# Altium integrated library Analog Devices Switches and Multiplexers Digital Crosspoint Switches.IntLib: 20 symbols (part 1 of 4)
Pins are listed as number, name and electrical type; pins without a type are passive.

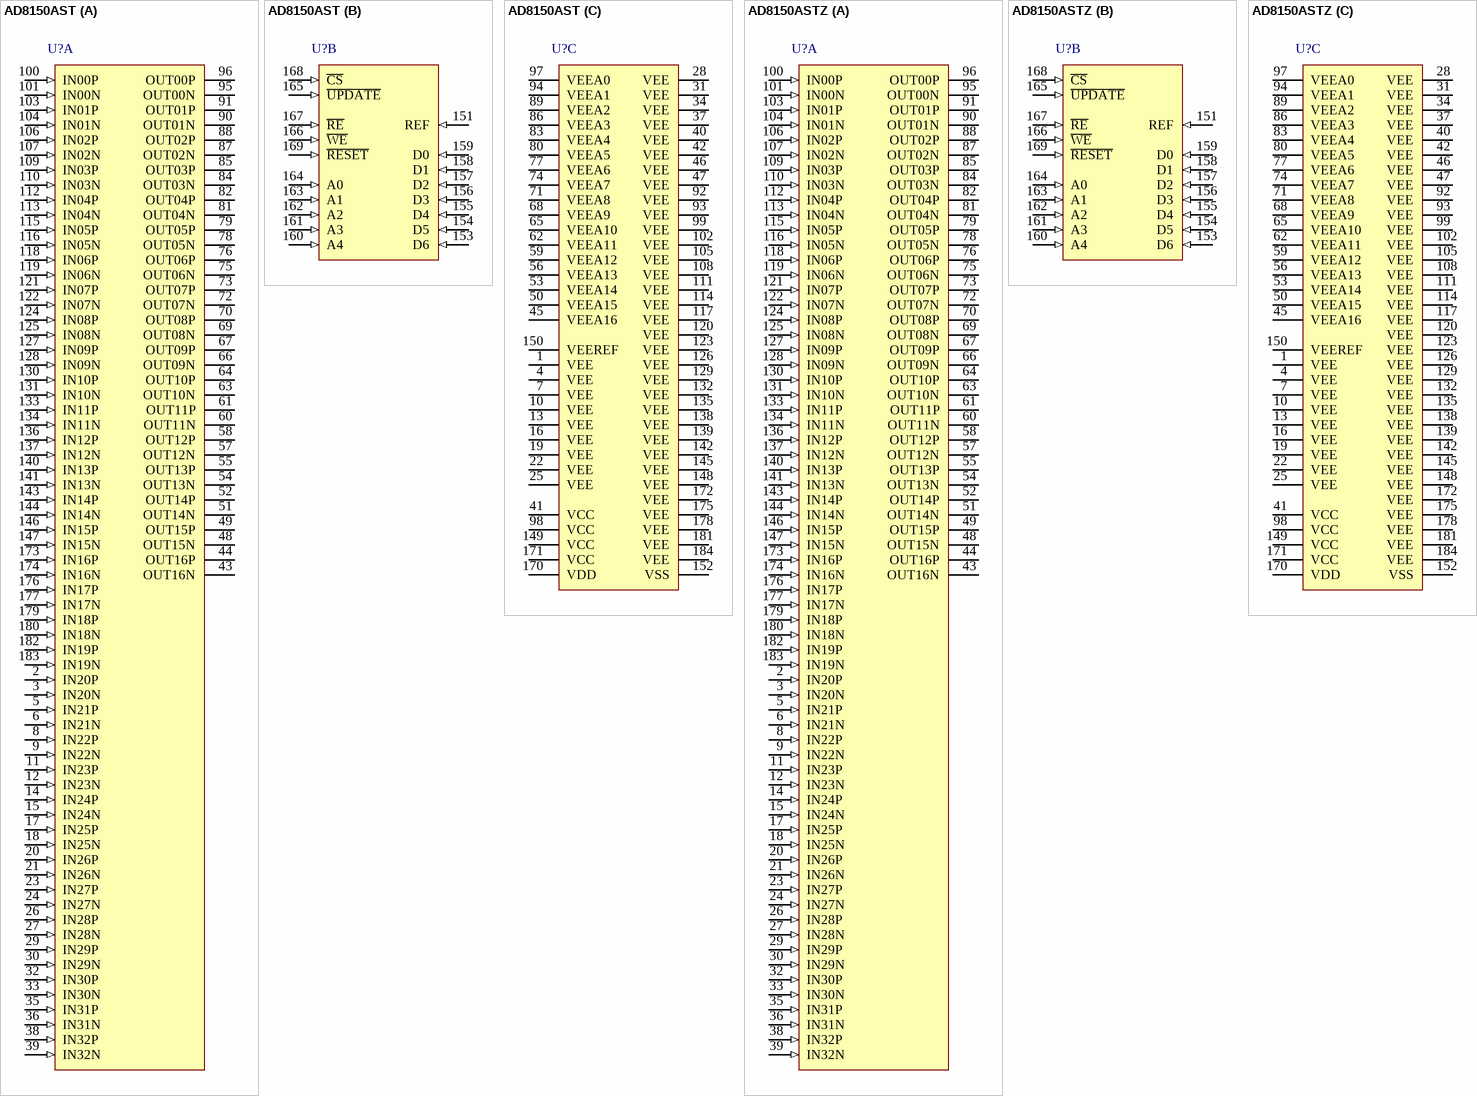
[diagram p0: symbols AD8150AST to AD8150ASTZ]

## AD8150AST
designator U?
Xstream(TM) 33 x 17, 1.5 Gbps Digital Crosspoint Switch, 650 ps Prop Delay, 0 to 85 degC, 184-pin QFP (ST-184), Tray; Manufacturer: Analog Devices; PartNumber: AD8150AST; Control Interface: CMOS/TTL Parallel; Data Rate (Gbps): 1.5; Input Swing (mV p-p): 200-1000; Prop Delay: 650ps; Output Rise/Fall (ps): 100; Supply Current: 400mA; Voltage Supply Level: ECL or PECL; DatasheetVersion: Rev. A; PackageVersion: Jun-03; PackageReference: ST-184; PackageDescription: 184-Pin Low Profile Quad Flat Package, Body 20 x 20 mm, Pitch 0.4 mm; Packing: Tray; Mounting Technology: Surface Mount; ComponentLink1Description: Manufacturer URL; ComponentLink1URL: http://www.analog.com/en/index.html; ComponentLink2Description: Datasheet; ComponentLink2URL: http://www.analog.com/static/imported-files/data_sheets/AD8150.pdf; ComponentLink3Description: Package Specification; ComponentLink3URL: http://www.analog.com/static/imported-files/packages/383064742445236181254945ST184_22x22.pdf
footprint ADI-ST-184_N (QFP, 184-Leads, Body 20x20mm, Pitch 0.4mm, IPC Medium Density)
footprint ADI-ST-184_L (QFP, 184-Leads, Body 20x20mm, Pitch 0.4mm, IPC High Density)
footprint ADI-ST-184_M (QFP, 184-Leads, Body 20x20mm, Pitch 0.4mm, IPC Low Density)
part A pins: 2 IN20P (in) "High Speed Input", 3 IN20N (in) "High Speed Input Complement", 5 IN21P (in) "High Speed Input", 6 IN21N (in) "High Speed Input Complement", 8 IN22P (in) "High Speed Input", 9 IN22N (in) "High Speed Input Complement", 11 IN23P (in) "High Speed Input", 12 IN23N (in) "High Speed Input Complement", 14 IN24P (in) "High Speed Input", 15 IN24N (in) "High Speed Input Complement", 17 IN25P (in) "High Speed Input", 18 IN25N (in) "High Speed Input Complement", 20 IN26P (in) "High Speed Input", 21 IN26N (in) "High Speed Input Complement", 23 IN27P (in) "High Speed Input", 24 IN27N (in) "High Speed Input Complement", 26 IN28P (in) "High Speed Input", 27 IN28N (in) "High Speed Input Complement", 29 IN29P (in) "High Speed Input", 30 IN29N (in) "High Speed Input Complement", 32 IN30P (in) "High Speed Input", 33 IN30N (in) "High Speed Input Complement", 35 IN31P (in) "High Speed Input", 36 IN31N (in) "High Speed Input Complement", 38 IN32P (in) "High Speed Input", 39 IN32N (in) "High Speed Input Complement", 43 OUT16N (hiz) "High Speed Output Complement", 44 OUT16P (hiz) "High Speed Output", 48 OUT15N (hiz) "High Speed Output Complement", 49 OUT15P (hiz) "High Speed Output", 51 OUT14N (hiz) "High Speed Output Complement", 52 OUT14P (hiz) "High Speed Output", 54 OUT13N (hiz) "High Speed Output Complement", 55 OUT13P (hiz) "High Speed Output", 57 OUT12N (hiz) "High Speed Output Complement", 58 OUT12P (hiz) "High Speed Output", 60 OUT11N (hiz) "High Speed Output Complement", 61 OUT11P (hiz) "High Speed Output", 63 OUT10N (hiz) "High Speed Output Complement", 64 OUT10P (hiz) "High Speed Output", 66 OUT09N (hiz) "High Speed Output Complement", 67 OUT09P (hiz) "High Speed Output", 69 OUT08N (hiz) "High Speed Output Complement", 70 OUT08P (hiz) "High Speed Output", 72 OUT07N (hiz) "High Speed Output Complement", 73 OUT07P (hiz) "High Speed Output", 75 OUT06N (hiz) "High Speed Output Complement", 76 OUT06P (hiz) "High Speed Output", 78 OUT05N (hiz) "High Speed Output Complement", 79 OUT05P (hiz) "High Speed Output", 81 OUT04N (hiz) "High Speed Output Complement", 82 OUT04P (hiz) "High Speed Output", 84 OUT03N (hiz) "High Speed Output Complement", 85 OUT03P (hiz) "High Speed Output", 87 OUT02N (hiz) "High Speed Output Complement", 88 OUT02P (hiz) "High Speed Output", 90 OUT01N (hiz) "High Speed Output Complement", 91 OUT01P (hiz) "High Speed Output", 95 OUT00N (hiz) "High Speed Output Complement", 96 OUT00P (hiz) "High Speed Output", 100 IN00P (in) "High Speed Input", 101 IN00N (in) "High Speed Input Complement", 103 IN01P (in) "High Speed Input", 104 IN01N (in) "High Speed Input Complement", 106 IN02P (in) "High Speed Input", 107 IN02N (in) "High Speed Input Complement", 109 IN03P (in) "High Speed Input", 110 IN03N (in) "High Speed Input Complement", 112 IN04P (in) "High Speed Input", 113 IN04N (in) "High Speed Input Complement", 115 IN05P (in) "High Speed Input", 116 IN05N (in) "High Speed Input Complement", 118 IN06P (in) "High Speed Input", 119 IN06N (in) "High Speed Input Complement", 121 IN07P (in) "High Speed Input", 122 IN07N (in) "High Speed Input Complement", 124 IN08P (in) "High Speed Input", 125 IN08N (in) "High Speed Input Complement", 127 IN09P (in) "High Speed Input", 128 IN09N (in) "High Speed Input Complement", 130 IN10P (in) "High Speed Input", 131 IN10N (in) "High Speed Input Complement", 133 IN11P (in) "High Speed Input", 134 IN11N (in) "High Speed Input Complement", 136 IN12P (in) "High Speed Input", 137 IN12N (in) "High Speed Input Complement", 140 IN13P (in) "High Speed Input", 141 IN13N (in) "High Speed Input Complement", 143 IN14P (in) "High Speed Input", 144 IN14N (in) "High Speed Input Complement", 146 IN15P (in) "High Speed Input", 147 IN15N (in) "High Speed Input Complement", 173 IN16P (in) "High Speed Input", 174 IN16N (in) "High Speed Input Complement", 176 IN17P (in) "High Speed Input", 177 IN17N (in) "High Speed Input Complement", 179 IN18P (in) "High Speed Input", 180 IN18N (in) "High Speed Input Complement", 182 IN19P (in) "High Speed Input", 183 IN19N (in) "High Speed Input Complement"
part B pins: 151 REF (in) "Connection Point for Output Logic Pull-Down Programming Resistor", 153 D6 (in) "Enable/DISABLE Output", 154 D5 (in) "(32) MSB Input Select", 155 D4 (in) "(16)", 156 D3 (in) "(8)", 157 D2 (in) "(4)", 158 D1 (in) "(2)", 159 D0 (in) "(1) LSB Input Select", 160 A4 (in) "(16) MSB Output Select", 161 A3 (in) "(8)", 162 A2 (in) "(4)", 163 A1 (in) "(2)", 164 A0 (in) "(1) LSB Output Select", 165 ~{UPDATE} (in) "Second-Rank Program", 166 ~{WE} (in) "First-Rank Program", 167 ~{RE} (in) "Enable Readback", 168 ~{CS} (in) "Enable Chip to Accept Programming", 169 ~{RESET} (in) "Disable All Outputs (Hi-Z)"
part C pins: 1 VEE (power) "Most Negative PECL Supply (common with other points labeled VEE)", 4 VEE (power) "Most Negative PECL Supply (common with other points labeled VEE)", 7 VEE (power) "Most Negative PECL Supply (common with other points labeled VEE)", 10 VEE (power) "Most Negative PECL Supply (common with other points labeled VEE)", 13 VEE (power) "Most Negative PECL Supply (common with other points labeled VEE)", 16 VEE (power) "Most Negative PECL Supply (common with other points labeled VEE)", 19 VEE (power) "Most Negative PECL Supply (common with other points labeled VEE)", 22 VEE (power) "Most Negative PECL Supply (common with other points labeled VEE)", 25 VEE (power) "Most Negative PECL Supply (common with other points labeled VEE)", 28 VEE (power) "Most Negative PECL Supply (common with other points labeled VEE)", 31 VEE (power) "Most Negative PECL Supply (common with other points labeled VEE)", 34 VEE (power) "Most Negative PECL Supply (common with other points labeled VEE)", 37 VEE (power) "Most Negative PECL Supply (common with other points labeled VEE)", 40 VEE (power) "Most Negative PECL Supply (common with other points labeled VEE)", 41 VCC (power) "Most Positive PECL Supply (common with other points labeled VCC)", 42 VEE (power) "Most Negative PECL Supply (common with other points labeled VEE)", 45 VEEA16 (power) "Most Negative PECL Supply (unique to this output)", 46 VEE (power) "Most Negative PECL Supply (common with other points labeled VEE)", 47 VEE (power) "Most Negative PECL Supply (common with other points labeled VEE)", 50 VEEA15 (power) "Most Negative PECL Supply (unique to this output)", 53 VEEA14 (power) "Most Negative PECL Supply (unique to this output)", 56 VEEA13 (power) "Most Negative PECL Supply (unique to this output)", 59 VEEA12 (power) "Most Negative PECL Supply (unique to this output)", 62 VEEA11 (power) "Most Negative PECL Supply (unique to this output)", 65 VEEA10 (power) "Most Negative PECL Supply (unique to this output)", 68 VEEA9 (power) "Most Negative PECL Supply (unique to this output)", 71 VEEA8 (power) "Most Negative PECL Supply (unique to this output)", 74 VEEA7 (power) "Most Negative PECL Supply (unique to this output)", 77 VEEA6 (power) "Most Negative PECL Supply (unique to this output)", 80 VEEA5 (power) "Most Negative PECL Supply (unique to this output)", 83 VEEA4 (power) "Most Negative PECL Supply (unique to this output)", 86 VEEA3 (power) "Most Negative PECL Supply (unique to this output)", 89 VEEA2 (power) "Most Negative PECL Supply (unique to this output)", 92 VEE (power) "Most Negative PECL Supply (common with other points labeled VEE)", 93 VEE (power) "Most Negative PECL Supply (common with other points labeled VEE)", 94 VEEA1 (power) "Most Negative PECL Supply (unique to this output)", 97 VEEA0 (power) "Most Negative PECL Supply (unique to this output)", 98 VCC (power) "Most Positive PECL Supply (common with other points labeled VCC)", 99 VEE (power) "Most Negative PECL Supply (common with other points labeled VEE)", 102 VEE (power) "Most Negative PECL Supply (common with other points labeled VEE)", 105 VEE (power) "Most Negative PECL Supply (common with other points labeled VEE)", 108 VEE (power) "Most Negative PECL Supply (common with other points labeled VEE)", 111 VEE (power) "Most Negative PECL Supply (common with other points labeled VEE)", 114 VEE (power) "Most Negative PECL Supply (common with other points labeled VEE)", 117 VEE (power) "Most Negative PECL Supply (common with other points labeled VEE)", 120 VEE (power) "Most Negative PECL Supply (common with other points labeled VEE)", 123 VEE (power) "Most Negative PECL Supply (common with other points labeled VEE)", 126 VEE (power) "Most Negative PECL Supply (common with other points labeled VEE)", 129 VEE (power) "Most Negative PECL Supply (common with other points labeled VEE)", 132 VEE (power) "Most Negative PECL Supply (common with other points labeled VEE)", 135 VEE (power) "Most Negative PECL Supply (common with other points labeled VEE)", 138 VEE (power) "Most Negative PECL Supply (common with other points labeled VEE)", 139 VEE (power) "Most Negative PECL Supply (common with other points labeled VEE)", 142 VEE (power) "Most Negative PECL Supply (common with other points labeled VEE)", 145 VEE (power) "Most Negative PECL Supply (common with other points labeled VEE)", 148 VEE (power) "Most Negative PECL Supply (common with other points labeled VEE)", 149 VCC (power) "Most Positive PECL Supply (common with other points labeled VCC)", 150 VEEREF (power) "Connection Point for Output Logic Pull-Down Programming Resistor (must be connected to VEE)", 152 VSS (power) "Most Negative Control Logic Supply", 170 VDD (power) "Most Positive Control Logic Supply", 171 VCC (power) "Most Positive PECL Supply (common with other points labeled VCC)", 172 VEE (power) "Most Negative PECL Supply (common with other points labeled VEE)", 175 VEE (power) "Most Negative PECL Supply (common with other points labeled VEE)", 178 VEE (power) "Most Negative PECL Supply (common with other points labeled VEE)", 181 VEE (power) "Most Negative PECL Supply (common with other points labeled VEE)", 184 VEE (power) "Most Negative PECL Supply (common with other points labeled VEE)"

## AD8150ASTZ
designator U?
Xstream(TM) 33 x 17, 1.5 Gbps Digital Crosspoint Switch, 650 ps Prop Delay, 0 to 85 degC, 184-pin QFP (ST-184), Tray; Manufacturer: Analog Devices; PartNumber: AD8150ASTZ; Control Interface: CMOS/TTL Parallel; Data Rate (Gbps): 1.5; Input Swing (mV p-p): 200-1000; Prop Delay: 650ps; Output Rise/Fall (ps): 100; Supply Current: 400mA; Voltage Supply Level: ECL or PECL; DatasheetVersion: Rev. A; PackageVersion: Jun-03; PackageReference: ST-184; PackageDescription: 184-Pin Low Profile Quad Flat Package, Body 20 x 20 mm, Pitch 0.4 mm; Supplier 1: Digi-Key; Supplier Part Number 1: AD8150ASTZ-ND; Supplier 2: Farnell; Supplier Part Number 2: 1438597; Supplier 3: Newark; Supplier Part Number 3: 59K6443; Supplier 4: Mouser; Supplier Part Number 4: 584-AD8150ASTZ; Packing: Tray; Mounting Technology: Surface Mount; ComponentLink1Description: Manufacturer URL; ComponentLink1URL: http://www.analog.com/en/index.html; ComponentLink2Description: Datasheet; ComponentLink2URL: http://www.analog.com/static/imported-files/data_sheets/AD8150.pdf; ComponentLink3Description: Package Specification; ComponentLink3URL: http://www.analog.com/static/imported-files/packages/383064742445236181254945ST184_22x22.pdf
footprint ADI-ST-184_N (QFP, 184-Leads, Body 20x20mm, Pitch 0.4mm, IPC Medium Density)
footprint ADI-ST-184_L (QFP, 184-Leads, Body 20x20mm, Pitch 0.4mm, IPC High Density)
footprint ADI-ST-184_M (QFP, 184-Leads, Body 20x20mm, Pitch 0.4mm, IPC Low Density)
part A pins: 2 IN20P (in) "High Speed Input", 3 IN20N (in) "High Speed Input Complement", 5 IN21P (in) "High Speed Input", 6 IN21N (in) "High Speed Input Complement", 8 IN22P (in) "High Speed Input", 9 IN22N (in) "High Speed Input Complement", 11 IN23P (in) "High Speed Input", 12 IN23N (in) "High Speed Input Complement", 14 IN24P (in) "High Speed Input", 15 IN24N (in) "High Speed Input Complement", 17 IN25P (in) "High Speed Input", 18 IN25N (in) "High Speed Input Complement", 20 IN26P (in) "High Speed Input", 21 IN26N (in) "High Speed Input Complement", 23 IN27P (in) "High Speed Input", 24 IN27N (in) "High Speed Input Complement", 26 IN28P (in) "High Speed Input", 27 IN28N (in) "High Speed Input Complement", 29 IN29P (in) "High Speed Input", 30 IN29N (in) "High Speed Input Complement", 32 IN30P (in) "High Speed Input", 33 IN30N (in) "High Speed Input Complement", 35 IN31P (in) "High Speed Input", 36 IN31N (in) "High Speed Input Complement", 38 IN32P (in) "High Speed Input", 39 IN32N (in) "High Speed Input Complement", 43 OUT16N (hiz) "High Speed Output Complement", 44 OUT16P (hiz) "High Speed Output", 48 OUT15N (hiz) "High Speed Output Complement", 49 OUT15P (hiz) "High Speed Output", 51 OUT14N (hiz) "High Speed Output Complement", 52 OUT14P (hiz) "High Speed Output", 54 OUT13N (hiz) "High Speed Output Complement", 55 OUT13P (hiz) "High Speed Output", 57 OUT12N (hiz) "High Speed Output Complement", 58 OUT12P (hiz) "High Speed Output", 60 OUT11N (hiz) "High Speed Output Complement", 61 OUT11P (hiz) "High Speed Output", 63 OUT10N (hiz) "High Speed Output Complement", 64 OUT10P (hiz) "High Speed Output", 66 OUT09N (hiz) "High Speed Output Complement", 67 OUT09P (hiz) "High Speed Output", 69 OUT08N (hiz) "High Speed Output Complement", 70 OUT08P (hiz) "High Speed Output", 72 OUT07N (hiz) "High Speed Output Complement", 73 OUT07P (hiz) "High Speed Output", 75 OUT06N (hiz) "High Speed Output Complement", 76 OUT06P (hiz) "High Speed Output", 78 OUT05N (hiz) "High Speed Output Complement", 79 OUT05P (hiz) "High Speed Output", 81 OUT04N (hiz) "High Speed Output Complement", 82 OUT04P (hiz) "High Speed Output", 84 OUT03N (hiz) "High Speed Output Complement", 85 OUT03P (hiz) "High Speed Output", 87 OUT02N (hiz) "High Speed Output Complement", 88 OUT02P (hiz) "High Speed Output", 90 OUT01N (hiz) "High Speed Output Complement", 91 OUT01P (hiz) "High Speed Output", 95 OUT00N (hiz) "High Speed Output Complement", 96 OUT00P (hiz) "High Speed Output", 100 IN00P (in) "High Speed Input", 101 IN00N (in) "High Speed Input Complement", 103 IN01P (in) "High Speed Input", 104 IN01N (in) "High Speed Input Complement", 106 IN02P (in) "High Speed Input", 107 IN02N (in) "High Speed Input Complement", 109 IN03P (in) "High Speed Input", 110 IN03N (in) "High Speed Input Complement", 112 IN04P (in) "High Speed Input", 113 IN04N (in) "High Speed Input Complement", 115 IN05P (in) "High Speed Input", 116 IN05N (in) "High Speed Input Complement", 118 IN06P (in) "High Speed Input", 119 IN06N (in) "High Speed Input Complement", 121 IN07P (in) "High Speed Input", 122 IN07N (in) "High Speed Input Complement", 124 IN08P (in) "High Speed Input", 125 IN08N (in) "High Speed Input Complement", 127 IN09P (in) "High Speed Input", 128 IN09N (in) "High Speed Input Complement", 130 IN10P (in) "High Speed Input", 131 IN10N (in) "High Speed Input Complement", 133 IN11P (in) "High Speed Input", 134 IN11N (in) "High Speed Input Complement", 136 IN12P (in) "High Speed Input", 137 IN12N (in) "High Speed Input Complement", 140 IN13P (in) "High Speed Input", 141 IN13N (in) "High Speed Input Complement", 143 IN14P (in) "High Speed Input", 144 IN14N (in) "High Speed Input Complement", 146 IN15P (in) "High Speed Input", 147 IN15N (in) "High Speed Input Complement", 173 IN16P (in) "High Speed Input", 174 IN16N (in) "High Speed Input Complement", 176 IN17P (in) "High Speed Input", 177 IN17N (in) "High Speed Input Complement", 179 IN18P (in) "High Speed Input", 180 IN18N (in) "High Speed Input Complement", 182 IN19P (in) "High Speed Input", 183 IN19N (in) "High Speed Input Complement"
part B pins: 151 REF (in) "Connection Point for Output Logic Pull-Down Programming Resistor", 153 D6 (in) "Enable/DISABLE Output", 154 D5 (in) "(32) MSB Input Select", 155 D4 (in) "(16)", 156 D3 (in) "(8)", 157 D2 (in) "(4)", 158 D1 (in) "(2)", 159 D0 (in) "(1) LSB Input Select", 160 A4 (in) "(16) MSB Output Select", 161 A3 (in) "(8)", 162 A2 (in) "(4)", 163 A1 (in) "(2)", 164 A0 (in) "(1) LSB Output Select", 165 ~{UPDATE} (in) "Second-Rank Program", 166 ~{WE} (in) "First-Rank Program", 167 ~{RE} (in) "Enable Readback", 168 ~{CS} (in) "Enable Chip to Accept Programming", 169 ~{RESET} (in) "Disable All Outputs (Hi-Z)"
part C pins: 1 VEE (power) "Most Negative PECL Supply (common with other points labeled VEE)", 4 VEE (power) "Most Negative PECL Supply (common with other points labeled VEE)", 7 VEE (power) "Most Negative PECL Supply (common with other points labeled VEE)", 10 VEE (power) "Most Negative PECL Supply (common with other points labeled VEE)", 13 VEE (power) "Most Negative PECL Supply (common with other points labeled VEE)", 16 VEE (power) "Most Negative PECL Supply (common with other points labeled VEE)", 19 VEE (power) "Most Negative PECL Supply (common with other points labeled VEE)", 22 VEE (power) "Most Negative PECL Supply (common with other points labeled VEE)", 25 VEE (power) "Most Negative PECL Supply (common with other points labeled VEE)", 28 VEE (power) "Most Negative PECL Supply (common with other points labeled VEE)", 31 VEE (power) "Most Negative PECL Supply (common with other points labeled VEE)", 34 VEE (power) "Most Negative PECL Supply (common with other points labeled VEE)", 37 VEE (power) "Most Negative PECL Supply (common with other points labeled VEE)", 40 VEE (power) "Most Negative PECL Supply (common with other points labeled VEE)", 41 VCC (power) "Most Positive PECL Supply (common with other points labeled VCC)", 42 VEE (power) "Most Negative PECL Supply (common with other points labeled VEE)", 45 VEEA16 (power) "Most Negative PECL Supply (unique to this output)", 46 VEE (power) "Most Negative PECL Supply (common with other points labeled VEE)", 47 VEE (power) "Most Negative PECL Supply (common with other points labeled VEE)", 50 VEEA15 (power) "Most Negative PECL Supply (unique to this output)", 53 VEEA14 (power) "Most Negative PECL Supply (unique to this output)", 56 VEEA13 (power) "Most Negative PECL Supply (unique to this output)", 59 VEEA12 (power) "Most Negative PECL Supply (unique to this output)", 62 VEEA11 (power) "Most Negative PECL Supply (unique to this output)", 65 VEEA10 (power) "Most Negative PECL Supply (unique to this output)", 68 VEEA9 (power) "Most Negative PECL Supply (unique to this output)", 71 VEEA8 (power) "Most Negative PECL Supply (unique to this output)", 74 VEEA7 (power) "Most Negative PECL Supply (unique to this output)", 77 VEEA6 (power) "Most Negative PECL Supply (unique to this output)", 80 VEEA5 (power) "Most Negative PECL Supply (unique to this output)", 83 VEEA4 (power) "Most Negative PECL Supply (unique to this output)", 86 VEEA3 (power) "Most Negative PECL Supply (unique to this output)", 89 VEEA2 (power) "Most Negative PECL Supply (unique to this output)", 92 VEE (power) "Most Negative PECL Supply (common with other points labeled VEE)", 93 VEE (power) "Most Negative PECL Supply (common with other points labeled VEE)", 94 VEEA1 (power) "Most Negative PECL Supply (unique to this output)", 97 VEEA0 (power) "Most Negative PECL Supply (unique to this output)", 98 VCC (power) "Most Positive PECL Supply (common with other points labeled VCC)", 99 VEE (power) "Most Negative PECL Supply (common with other points labeled VEE)", 102 VEE (power) "Most Negative PECL Supply (common with other points labeled VEE)", 105 VEE (power) "Most Negative PECL Supply (common with other points labeled VEE)", 108 VEE (power) "Most Negative PECL Supply (common with other points labeled VEE)", 111 VEE (power) "Most Negative PECL Supply (common with other points labeled VEE)", 114 VEE (power) "Most Negative PECL Supply (common with other points labeled VEE)", 117 VEE (power) "Most Negative PECL Supply (common with other points labeled VEE)", 120 VEE (power) "Most Negative PECL Supply (common with other points labeled VEE)", 123 VEE (power) "Most Negative PECL Supply (common with other points labeled VEE)", 126 VEE (power) "Most Negative PECL Supply (common with other points labeled VEE)", 129 VEE (power) "Most Negative PECL Supply (common with other points labeled VEE)", 132 VEE (power) "Most Negative PECL Supply (common with other points labeled VEE)", 135 VEE (power) "Most Negative PECL Supply (common with other points labeled VEE)", 138 VEE (power) "Most Negative PECL Supply (common with other points labeled VEE)", 139 VEE (power) "Most Negative PECL Supply (common with other points labeled VEE)", 142 VEE (power) "Most Negative PECL Supply (common with other points labeled VEE)", 145 VEE (power) "Most Negative PECL Supply (common with other points labeled VEE)", 148 VEE (power) "Most Negative PECL Supply (common with other points labeled VEE)", 149 VCC (power) "Most Positive PECL Supply (common with other points labeled VCC)", 150 VEEREF (power) "Connection Point for Output Logic Pull-Down Programming Resistor (must be connected to VEE)", 152 VSS (power) "Most Negative Control Logic Supply", 170 VDD (power) "Most Positive Control Logic Supply", 171 VCC (power) "Most Positive PECL Supply (common with other points labeled VCC)", 172 VEE (power) "Most Negative PECL Supply (common with other points labeled VEE)", 175 VEE (power) "Most Negative PECL Supply (common with other points labeled VEE)", 178 VEE (power) "Most Negative PECL Supply (common with other points labeled VEE)", 181 VEE (power) "Most Negative PECL Supply (common with other points labeled VEE)", 184 VEE (power) "Most Negative PECL Supply (common with other points labeled VEE)"

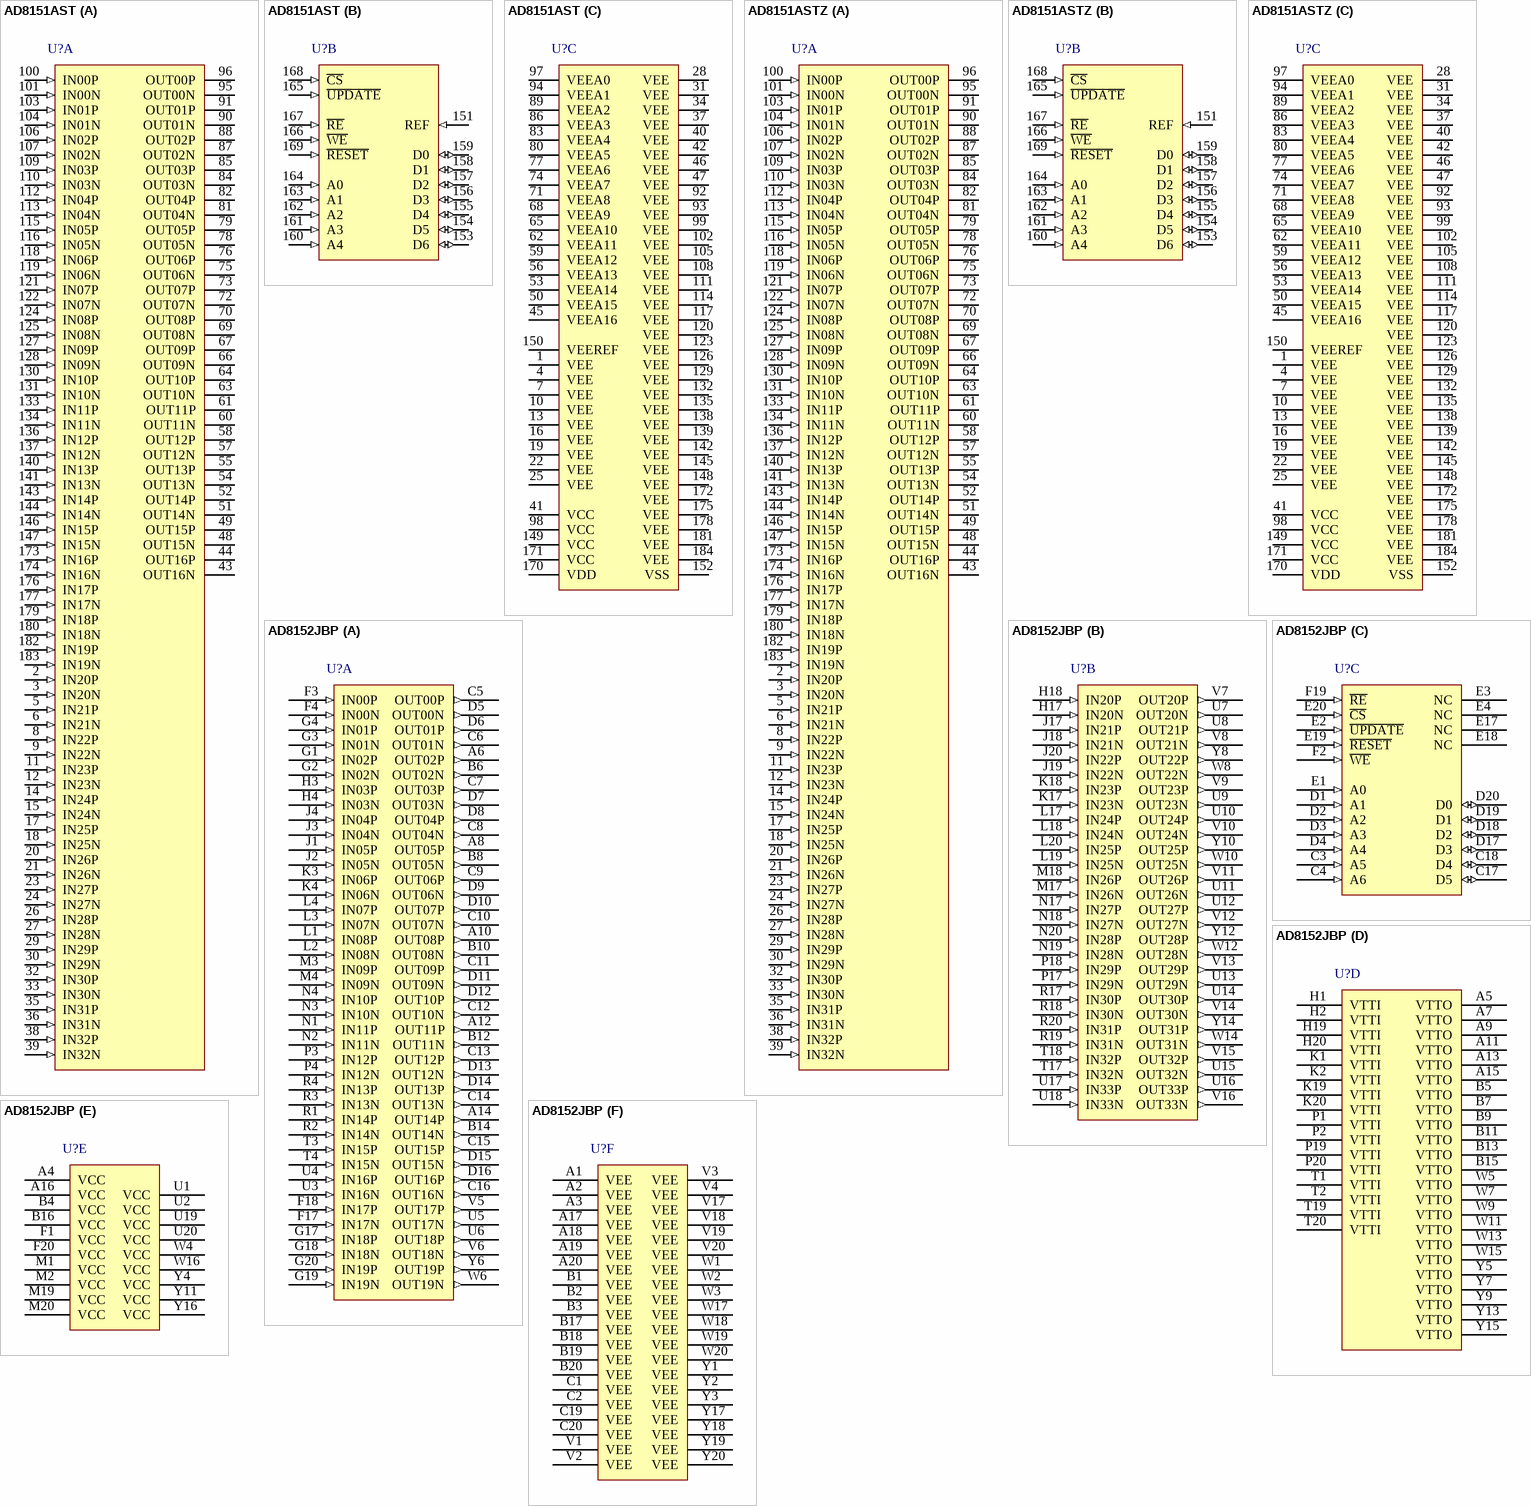
[diagram p1: symbols AD8151AST to AD8152JBP]

## AD8151AST
designator U?
Xstream(TM) 33 x 17, 3.2 Gbps Digital Crosspoint Switch, 650 ps Prop Delay, 0 to 85 degC, 184-pin QFP (ST-184), Tray; Manufacturer: Analog Devices; PartNumber: AD8151AST; Control Interface: CMOS/TTL Parallel; Data Rate (Gbps): 3.2; Input Swing (mV p-p): 200-1000; Prop Delay: 650ps; Output Rise/Fall (ps): 100; Supply Current: 425mA; Voltage Supply Level: ECL or PECL; DatasheetVersion: Rev. B; PackageVersion: Jun-03; PackageReference: ST-184; PackageDescription: 184-Pin Low Profile Quad Flat Package, Body 20 x 20 mm, Pitch 0.4 mm; Packing: Tray; Mounting Technology: Surface Mount; ComponentLink1Description: Manufacturer URL; ComponentLink1URL: http://www.analog.com/en/index.html; ComponentLink2Description: Datasheet; ComponentLink2URL: http://www.analog.com/static/imported-files/data_sheets/AD8151.pdf; ComponentLink3Description: Package Specification; ComponentLink3URL: http://www.analog.com/static/imported-files/packages/383064742445236181254945ST184_22x22.pdf
footprint ADI-ST-184_N (QFP, 184-Leads, Body 20x20mm, Pitch 0.4mm, IPC Medium Density)
footprint ADI-ST-184_L (QFP, 184-Leads, Body 20x20mm, Pitch 0.4mm, IPC High Density)
footprint ADI-ST-184_M (QFP, 184-Leads, Body 20x20mm, Pitch 0.4mm, IPC Low Density)
part A pins: 2 IN20P (in) "High Speed Input", 3 IN20N (in) "High Speed Input Complement", 5 IN21P (in) "High Speed Input", 6 IN21N (in) "High Speed Input Complement", 8 IN22P (in) "High Speed Input", 9 IN22N (in) "High Speed Input Complement", 11 IN23P (in) "High Speed Input", 12 IN23N (in) "High Speed Input Complement", 14 IN24P (in) "High Speed Input", 15 IN24N (in) "High Speed Input Complement", 17 IN25P (in) "High Speed Input", 18 IN25N (in) "High Speed Input Complement", 20 IN26P (in) "High Speed Input", 21 IN26N (in) "High Speed Input Complement", 23 IN27P (in) "High Speed Input", 24 IN27N (in) "High Speed Input Complement", 26 IN28P (in) "High Speed Input", 27 IN28N (in) "High Speed Input Complement", 29 IN29P (in) "High Speed Input", 30 IN29N (in) "High Speed Input Complement", 32 IN30P (in) "High Speed Input", 33 IN30N (in) "High Speed Input Complement", 35 IN31P (in) "High Speed Input", 36 IN31N (in) "High Speed Input Complement", 38 IN32P (in) "High Speed Input", 39 IN32N (in) "High Speed Input Complement", 43 OUT16N (oc) "High Speed Output Complement", 44 OUT16P (oc) "High Speed Output", 48 OUT15N (oc) "High Speed Output Complement", 49 OUT15P (oc) "High Speed Output", 51 OUT14N (oc) "High Speed Output Complement", 52 OUT14P (oc) "High Speed Output", 54 OUT13N (oc) "High Speed Output Complement", 55 OUT13P (oc) "High Speed Output", 57 OUT12N (oc) "High Speed Output Complement", 58 OUT12P (oc) "High Speed Output", 60 OUT11N (oc) "High Speed Output Complement", 61 OUT11P (oc) "High Speed Output", 63 OUT10N (oc) "High Speed Output Complement", 64 OUT10P (oc) "High Speed Output", 66 OUT09N (oc) "High Speed Output Complement", 67 OUT09P (oc) "High Speed Output", 69 OUT08N (oc) "High Speed Output Complement", 70 OUT08P (oc) "High Speed Output", 72 OUT07N (oc) "High Speed Output Complement", 73 OUT07P (oc) "High Speed Output", 75 OUT06N (oc) "High Speed Output Complement", 76 OUT06P (oc) "High Speed Output", 78 OUT05N (oc) "High Speed Output Complement", 79 OUT05P (oc) "High Speed Output", 81 OUT04N (oc) "High Speed Output Complement", 82 OUT04P (oc) "High Speed Output", 84 OUT03N (oc) "High Speed Output Complement", 85 OUT03P (oc) "High Speed Output", 87 OUT02N (oc) "High Speed Output Complement", 88 OUT02P (oc) "High Speed Output", 90 OUT01N (oc) "High Speed Output Complement", 91 OUT01P (oc) "High Speed Output", 95 OUT00N (oc) "High Speed Output Complement", 96 OUT00P (oc) "High Speed Output", 100 IN00P (in) "High Speed Input", 101 IN00N (in) "High Speed Input Complement", 103 IN01P (in) "High Speed Input", 104 IN01N (in) "High Speed Input Complement", 106 IN02P (in) "High Speed Input", 107 IN02N (in) "High Speed Input Complement", 109 IN03P (in) "High Speed Input", 110 IN03N (in) "High Speed Input Complement", 112 IN04P (in) "High Speed Input", 113 IN04N (in) "High Speed Input Complement", 115 IN05P (in) "High Speed Input", 116 IN05N (in) "High Speed Input Complement", 118 IN06P (in) "High Speed Input", 119 IN06N (in) "High Speed Input Complement", 121 IN07P (in) "High Speed Input", 122 IN07N (in) "High Speed Input Complement", 124 IN08P (in) "High Speed Input", 125 IN08N (in) "High Speed Input Complement", 127 IN09P (in) "High Speed Input", 128 IN09N (in) "High Speed Input Complement", 130 IN10P (in) "High Speed Input", 131 IN10N (in) "High Speed Input Complement", 133 IN11P (in) "High Speed Input", 134 IN11N (in) "High Speed Input Complement", 136 IN12P (in) "High Speed Input", 137 IN12N (in) "High Speed Input Complement", 140 IN13P (in) "High Speed Input", 141 IN13N (in) "High Speed Input Complement", 143 IN14P (in) "High Speed Input", 144 IN14N (in) "High Speed Input Complement", 146 IN15P (in) "High Speed Input", 147 IN15N (in) "High Speed Input Complement", 173 IN16P (in) "High Speed Input", 174 IN16N (in) "High Speed Input Complement", 176 IN17P (in) "High Speed Input", 177 IN17N (in) "High Speed Input Complement", 179 IN18P (in) "High Speed Input", 180 IN18N (in) "High Speed Input Complement", 182 IN19P (in) "High Speed Input", 183 IN19N (in) "High Speed Input Complement"
part B pins: 151 REF (in) "Connection Point for Output Logic Pull-Down Programming Resistor", 153 D6 (io) "Enable/D\i\s\a\b\l\e\ Output", 154 D5 (io) "Bit 32--MSB Input Select", 155 D4 (io) "Bit 16", 156 D3 (io) "Bit 8", 157 D2 (io) "Bit 4", 158 D1 (io) "Bit 2", 159 D0 (io) "159 Bit 1--LSB Input Select", 160 A4 (in) "Bit 16--MSB Output Select", 161 A3 (in) "Bit 8", 162 A2 (in) "Bit 4", 163 A1 (in) "Bit 2", 164 A0 (in) "Bit 1--LSB Output Select", 165 ~{UPDATE} (in) "Second-Rank Program", 166 ~{WE} (in) "First-Rank Program", 167 ~{RE} (in) "Enable Readback", 168 ~{CS} (in) "Enable Chip to Accept Programming", 169 ~{RESET} (in) "Disable All Outputs (Hi-Z)"
part C pins: 1 VEE (power) "Most Negative PECL Supply (common with other points labeled VEE)", 4 VEE (power) "Most Negative PECL Supply (common with other points labeled VEE)", 7 VEE (power) "Most Negative PECL Supply (common with other points labeled VEE)", 10 VEE (power) "Most Negative PECL Supply (common with other points labeled VEE)", 13 VEE (power) "Most Negative PECL Supply (common with other points labeled VEE)", 16 VEE (power) "Most Negative PECL Supply (common with other points labeled VEE)", 19 VEE (power) "Most Negative PECL Supply (common with other points labeled VEE)", 22 VEE (power) "Most Negative PECL Supply (common with other points labeled VEE)", 25 VEE (power) "Most Negative PECL Supply (common with other points labeled VEE)", 28 VEE (power) "Most Negative PECL Supply (common with other points labeled VEE)", 31 VEE (power) "Most Negative PECL Supply (common with other points labeled VEE)", 34 VEE (power) "Most Negative PECL Supply (common with other points labeled VEE)", 37 VEE (power) "Most Negative PECL Supply (common with other points labeled VEE)", 40 VEE (power) "Most Negative PECL Supply (common with other points labeled VEE)", 41 VCC (power) "Most Positive PECL Supply (common with other points labeled VCC)", 42 VEE (power) "Most Negative PECL Supply (common with other points labeled VEE)", 45 VEEA16 (power) "Most Negative PECL Supply (unique to this output)", 46 VEE (power) "Most Negative PECL Supply (common with other points labeled VEE)", 47 VEE (power) "Most Negative PECL Supply (common with other points labeled VEE)", 50 VEEA15 (power) "Most Negative PECL Supply (unique to this output)", 53 VEEA14 (power) "Most Negative PECL Supply (unique to this output)", 56 VEEA13 (power) "Most Negative PECL Supply (unique to this output)", 59 VEEA12 (power) "Most Negative PECL Supply (unique to this output)", 62 VEEA11 (power) "Most Negative PECL Supply (unique to this output)", 65 VEEA10 (power) "Most Negative PECL Supply (unique to this output)", 68 VEEA9 (power) "Most Negative PECL Supply (unique to this output)", 71 VEEA8 (power) "Most Negative PECL Supply (unique to this output)", 74 VEEA7 (power) "Most Negative PECL Supply (unique to this output)", 77 VEEA6 (power) "Most Negative PECL Supply (unique to this output)", 80 VEEA5 (power) "Most Negative PECL Supply (unique to this output)", 83 VEEA4 (power) "Most Negative PECL Supply (unique to this output)", 86 VEEA3 (power) "Most Negative PECL Supply (unique to this output)", 89 VEEA2 (power) "Most Negative PECL Supply (unique to this output)", 92 VEE (power) "Most Negative PECL Supply (common with other points labeled VEE)", 93 VEE (power) "Most Negative PECL Supply (common with other points labeled VEE)", 94 VEEA1 (power) "Most Negative PECL Supply (unique to this output)", 97 VEEA0 (power) "Most Negative PECL Supply (unique to this output)", 98 VCC (power) "Most Positive PECL Supply (common with other points labeled VCC)", 99 VEE (power) "Most Negative PECL Supply (common with other points labeled VEE)", 102 VEE (power) "Most Negative PECL Supply (common with other points labeled VEE)", 105 VEE (power) "Most Negative PECL Supply (common with other points labeled VEE)", 108 VEE (power) "Most Negative PECL Supply (common with other points labeled VEE)", 111 VEE (power) "Most Negative PECL Supply (common with other points labeled VEE)", 114 VEE (power) "Most Negative PECL Supply (common with other points labeled VEE)", 117 VEE (power) "Most Negative PECL Supply (common with other points labeled VEE)", 120 VEE (power) "Most Negative PECL Supply (common with other points labeled VEE)", 123 VEE (power) "Most Negative PECL Supply (common with other points labeled VEE)", 126 VEE (power) "Most Negative PECL Supply (common with other points labeled VEE)", 129 VEE (power) "Most Negative PECL Supply (common with other points labeled VEE)", 132 VEE (power) "Most Negative PECL Supply (common with other points labeled VEE)", 135 VEE (power) "Most Negative PECL Supply (common with other points labeled VEE)", 138 VEE (power) "Most Negative PECL Supply (common with other points labeled VEE)", 139 VEE (power) "Most Negative PECL Supply (common with other points labeled VEE)", 142 VEE (power) "Most Negative PECL Supply (common with other points labeled VEE)", 145 VEE (power) "Most Negative PECL Supply (common with other points labeled VEE)", 148 VEE (power) "Most Negative PECL Supply (common with other points labeled VEE)", 149 VCC (power) "Most Positive PECL Supply (common with other points labeled VCC)", 150 VEEREF "Connection Point for Output Logic Pull-Down Programming Resistor (must be connected to VEE)", 152 VSS (power) "Most Negative Control Logic Supply", 170 VDD (power) "Most Positive Control Logic Supply", 171 VCC (power) "Most Positive PECL Supply (common with other points labeled VCC)", 172 VEE (power) "Most Negative PECL Supply (common with other points labeled VEE)", 175 VEE (power) "Most Negative PECL Supply (common with other points labeled VEE)", 178 VEE (power) "Most Negative PECL Supply (common with other points labeled VEE)", 181 VEE (power) "Most Negative PECL Supply (common with other points labeled VEE)", 184 VEE (power) "Most Negative PECL Supply (common with other points labeled VEE)"

## AD8151ASTZ
designator U?
Xstream(TM) 33 x 17, 3.2 Gbps Digital Crosspoint Switch, 650 ps Prop Delay, 0 to 85 degC, 184-pin QFP (ST-184), Tray; Manufacturer: Analog Devices; PartNumber: AD8151ASTZ; Control Interface: CMOS/TTL Parallel; Data Rate (Gbps): 3.2; Input Swing (mV p-p): 200-1000; Prop Delay: 650ps; Output Rise/Fall (ps): 100; Supply Current: 425mA; Voltage Supply Level: ECL or PECL; DatasheetVersion: Rev. B; PackageVersion: Jun-03; PackageReference: ST-184; PackageDescription: 184-Pin Low Profile Quad Flat Package, Body 20 x 20 mm, Pitch 0.4 mm; Supplier 1: Digi-Key; Supplier Part Number 1: AD8151ASTZ-ND; Supplier 2: Mouser; Supplier Part Number 2: 584-AD8151ASTZ; Packing: Tray; Mounting Technology: Surface Mount; ComponentLink1Description: Manufacturer URL; ComponentLink1URL: http://www.analog.com/en/index.html; ComponentLink2Description: Datasheet; ComponentLink2URL: http://www.analog.com/static/imported-files/data_sheets/AD8151.pdf; ComponentLink3Description: Package Specification; ComponentLink3URL: http://www.analog.com/static/imported-files/packages/383064742445236181254945ST184_22x22.pdf
footprint ADI-ST-184_N (QFP, 184-Leads, Body 20x20mm, Pitch 0.4mm, IPC Medium Density)
footprint ADI-ST-184_L (QFP, 184-Leads, Body 20x20mm, Pitch 0.4mm, IPC High Density)
footprint ADI-ST-184_M (QFP, 184-Leads, Body 20x20mm, Pitch 0.4mm, IPC Low Density)
part A pins: 2 IN20P (in) "High Speed Input", 3 IN20N (in) "High Speed Input Complement", 5 IN21P (in) "High Speed Input", 6 IN21N (in) "High Speed Input Complement", 8 IN22P (in) "High Speed Input", 9 IN22N (in) "High Speed Input Complement", 11 IN23P (in) "High Speed Input", 12 IN23N (in) "High Speed Input Complement", 14 IN24P (in) "High Speed Input", 15 IN24N (in) "High Speed Input Complement", 17 IN25P (in) "High Speed Input", 18 IN25N (in) "High Speed Input Complement", 20 IN26P (in) "High Speed Input", 21 IN26N (in) "High Speed Input Complement", 23 IN27P (in) "High Speed Input", 24 IN27N (in) "High Speed Input Complement", 26 IN28P (in) "High Speed Input", 27 IN28N (in) "High Speed Input Complement", 29 IN29P (in) "High Speed Input", 30 IN29N (in) "High Speed Input Complement", 32 IN30P (in) "High Speed Input", 33 IN30N (in) "High Speed Input Complement", 35 IN31P (in) "High Speed Input", 36 IN31N (in) "High Speed Input Complement", 38 IN32P (in) "High Speed Input", 39 IN32N (in) "High Speed Input Complement", 43 OUT16N (oc) "High Speed Output Complement", 44 OUT16P (oc) "High Speed Output", 48 OUT15N (oc) "High Speed Output Complement", 49 OUT15P (oc) "High Speed Output", 51 OUT14N (oc) "High Speed Output Complement", 52 OUT14P (oc) "High Speed Output", 54 OUT13N (oc) "High Speed Output Complement", 55 OUT13P (oc) "High Speed Output", 57 OUT12N (oc) "High Speed Output Complement", 58 OUT12P (oc) "High Speed Output", 60 OUT11N (oc) "High Speed Output Complement", 61 OUT11P (oc) "High Speed Output", 63 OUT10N (oc) "High Speed Output Complement", 64 OUT10P (oc) "High Speed Output", 66 OUT09N (oc) "High Speed Output Complement", 67 OUT09P (oc) "High Speed Output", 69 OUT08N (oc) "High Speed Output Complement", 70 OUT08P (oc) "High Speed Output", 72 OUT07N (oc) "High Speed Output Complement", 73 OUT07P (oc) "High Speed Output", 75 OUT06N (oc) "High Speed Output Complement", 76 OUT06P (oc) "High Speed Output", 78 OUT05N (oc) "High Speed Output Complement", 79 OUT05P (oc) "High Speed Output", 81 OUT04N (oc) "High Speed Output Complement", 82 OUT04P (oc) "High Speed Output", 84 OUT03N (oc) "High Speed Output Complement", 85 OUT03P (oc) "High Speed Output", 87 OUT02N (oc) "High Speed Output Complement", 88 OUT02P (oc) "High Speed Output", 90 OUT01N (oc) "High Speed Output Complement", 91 OUT01P (oc) "High Speed Output", 95 OUT00N (oc) "High Speed Output Complement", 96 OUT00P (oc) "High Speed Output", 100 IN00P (in) "High Speed Input", 101 IN00N (in) "High Speed Input Complement", 103 IN01P (in) "High Speed Input", 104 IN01N (in) "High Speed Input Complement", 106 IN02P (in) "High Speed Input", 107 IN02N (in) "High Speed Input Complement", 109 IN03P (in) "High Speed Input", 110 IN03N (in) "High Speed Input Complement", 112 IN04P (in) "High Speed Input", 113 IN04N (in) "High Speed Input Complement", 115 IN05P (in) "High Speed Input", 116 IN05N (in) "High Speed Input Complement", 118 IN06P (in) "High Speed Input", 119 IN06N (in) "High Speed Input Complement", 121 IN07P (in) "High Speed Input", 122 IN07N (in) "High Speed Input Complement", 124 IN08P (in) "High Speed Input", 125 IN08N (in) "High Speed Input Complement", 127 IN09P (in) "High Speed Input", 128 IN09N (in) "High Speed Input Complement", 130 IN10P (in) "High Speed Input", 131 IN10N (in) "High Speed Input Complement", 133 IN11P (in) "High Speed Input", 134 IN11N (in) "High Speed Input Complement", 136 IN12P (in) "High Speed Input", 137 IN12N (in) "High Speed Input Complement", 140 IN13P (in) "High Speed Input", 141 IN13N (in) "High Speed Input Complement", 143 IN14P (in) "High Speed Input", 144 IN14N (in) "High Speed Input Complement", 146 IN15P (in) "High Speed Input", 147 IN15N (in) "High Speed Input Complement", 173 IN16P (in) "High Speed Input", 174 IN16N (in) "High Speed Input Complement", 176 IN17P (in) "High Speed Input", 177 IN17N (in) "High Speed Input Complement", 179 IN18P (in) "High Speed Input", 180 IN18N (in) "High Speed Input Complement", 182 IN19P (in) "High Speed Input", 183 IN19N (in) "High Speed Input Complement"
part B pins: 151 REF (in) "Connection Point for Output Logic Pull-Down Programming Resistor", 153 D6 (io) "Enable/D\i\s\a\b\l\e\ Output", 154 D5 (io) "Bit 32--MSB Input Select", 155 D4 (io) "Bit 16", 156 D3 (io) "Bit 8", 157 D2 (io) "Bit 4", 158 D1 (io) "Bit 2", 159 D0 (io) "159 Bit 1--LSB Input Select", 160 A4 (in) "Bit 16--MSB Output Select", 161 A3 (in) "Bit 8", 162 A2 (in) "Bit 4", 163 A1 (in) "Bit 2", 164 A0 (in) "Bit 1--LSB Output Select", 165 ~{UPDATE} (in) "Second-Rank Program", 166 ~{WE} (in) "First-Rank Program", 167 ~{RE} (in) "Enable Readback", 168 ~{CS} (in) "Enable Chip to Accept Programming", 169 ~{RESET} (in) "Disable All Outputs (Hi-Z)"
part C pins: 1 VEE (power) "Most Negative PECL Supply (common with other points labeled VEE)", 4 VEE (power) "Most Negative PECL Supply (common with other points labeled VEE)", 7 VEE (power) "Most Negative PECL Supply (common with other points labeled VEE)", 10 VEE (power) "Most Negative PECL Supply (common with other points labeled VEE)", 13 VEE (power) "Most Negative PECL Supply (common with other points labeled VEE)", 16 VEE (power) "Most Negative PECL Supply (common with other points labeled VEE)", 19 VEE (power) "Most Negative PECL Supply (common with other points labeled VEE)", 22 VEE (power) "Most Negative PECL Supply (common with other points labeled VEE)", 25 VEE (power) "Most Negative PECL Supply (common with other points labeled VEE)", 28 VEE (power) "Most Negative PECL Supply (common with other points labeled VEE)", 31 VEE (power) "Most Negative PECL Supply (common with other points labeled VEE)", 34 VEE (power) "Most Negative PECL Supply (common with other points labeled VEE)", 37 VEE (power) "Most Negative PECL Supply (common with other points labeled VEE)", 40 VEE (power) "Most Negative PECL Supply (common with other points labeled VEE)", 41 VCC (power) "Most Positive PECL Supply (common with other points labeled VCC)", 42 VEE (power) "Most Negative PECL Supply (common with other points labeled VEE)", 45 VEEA16 (power) "Most Negative PECL Supply (unique to this output)", 46 VEE (power) "Most Negative PECL Supply (common with other points labeled VEE)", 47 VEE (power) "Most Negative PECL Supply (common with other points labeled VEE)", 50 VEEA15 (power) "Most Negative PECL Supply (unique to this output)", 53 VEEA14 (power) "Most Negative PECL Supply (unique to this output)", 56 VEEA13 (power) "Most Negative PECL Supply (unique to this output)", 59 VEEA12 (power) "Most Negative PECL Supply (unique to this output)", 62 VEEA11 (power) "Most Negative PECL Supply (unique to this output)", 65 VEEA10 (power) "Most Negative PECL Supply (unique to this output)", 68 VEEA9 (power) "Most Negative PECL Supply (unique to this output)", 71 VEEA8 (power) "Most Negative PECL Supply (unique to this output)", 74 VEEA7 (power) "Most Negative PECL Supply (unique to this output)", 77 VEEA6 (power) "Most Negative PECL Supply (unique to this output)", 80 VEEA5 (power) "Most Negative PECL Supply (unique to this output)", 83 VEEA4 (power) "Most Negative PECL Supply (unique to this output)", 86 VEEA3 (power) "Most Negative PECL Supply (unique to this output)", 89 VEEA2 (power) "Most Negative PECL Supply (unique to this output)", 92 VEE (power) "Most Negative PECL Supply (common with other points labeled VEE)", 93 VEE (power) "Most Negative PECL Supply (common with other points labeled VEE)", 94 VEEA1 (power) "Most Negative PECL Supply (unique to this output)", 97 VEEA0 (power) "Most Negative PECL Supply (unique to this output)", 98 VCC (power) "Most Positive PECL Supply (common with other points labeled VCC)", 99 VEE (power) "Most Negative PECL Supply (common with other points labeled VEE)", 102 VEE (power) "Most Negative PECL Supply (common with other points labeled VEE)", 105 VEE (power) "Most Negative PECL Supply (common with other points labeled VEE)", 108 VEE (power) "Most Negative PECL Supply (common with other points labeled VEE)", 111 VEE (power) "Most Negative PECL Supply (common with other points labeled VEE)", 114 VEE (power) "Most Negative PECL Supply (common with other points labeled VEE)", 117 VEE (power) "Most Negative PECL Supply (common with other points labeled VEE)", 120 VEE (power) "Most Negative PECL Supply (common with other points labeled VEE)", 123 VEE (power) "Most Negative PECL Supply (common with other points labeled VEE)", 126 VEE (power) "Most Negative PECL Supply (common with other points labeled VEE)", 129 VEE (power) "Most Negative PECL Supply (common with other points labeled VEE)", 132 VEE (power) "Most Negative PECL Supply (common with other points labeled VEE)", 135 VEE (power) "Most Negative PECL Supply (common with other points labeled VEE)", 138 VEE (power) "Most Negative PECL Supply (common with other points labeled VEE)", 139 VEE (power) "Most Negative PECL Supply (common with other points labeled VEE)", 142 VEE (power) "Most Negative PECL Supply (common with other points labeled VEE)", 145 VEE (power) "Most Negative PECL Supply (common with other points labeled VEE)", 148 VEE (power) "Most Negative PECL Supply (common with other points labeled VEE)", 149 VCC (power) "Most Positive PECL Supply (common with other points labeled VCC)", 150 VEEREF "Connection Point for Output Logic Pull-Down Programming Resistor (must be connected to VEE)", 152 VSS (power) "Most Negative Control Logic Supply", 170 VDD (power) "Most Positive Control Logic Supply", 171 VCC (power) "Most Positive PECL Supply (common with other points labeled VCC)", 172 VEE (power) "Most Negative PECL Supply (common with other points labeled VEE)", 175 VEE (power) "Most Negative PECL Supply (common with other points labeled VEE)", 178 VEE (power) "Most Negative PECL Supply (common with other points labeled VEE)", 181 VEE (power) "Most Negative PECL Supply (common with other points labeled VEE)", 184 VEE (power) "Most Negative PECL Supply (common with other points labeled VEE)"